# Altium footprint library PDQE20-Q24-S5-D.PcbLib: 2 footprints
Each footprint in its own frame and in the unit in brackets; x right, y up, seen from the top. Pads: shape width x height; smd on the part's side, far side on the other; paste and mask are expansions set on the pad; w line width, h text height; cw(c..) or ccw(c..) is an arc to the next point about the centre after c.
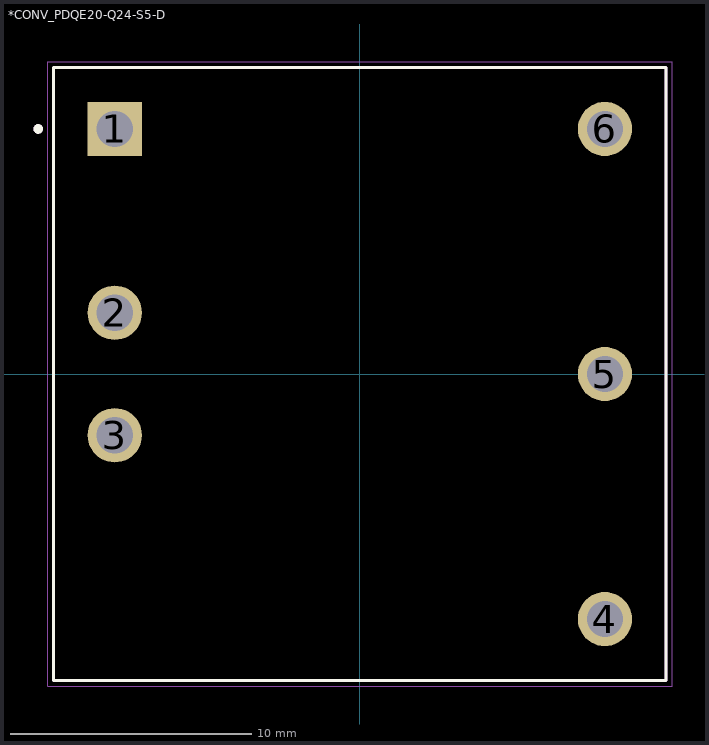
[diagram p0: the footprints below, top view; thin cyan lines are the x and y axes]

## *CONV_PDQE20-Q24-S5-D [mm]
pads (6):
  rect 2.25x2.25 hole 1.5: 1(-10.16,10.16)
  round 2.25 hole 1.5: 2(-10.16,2.54) 3(-10.16,-2.54) 4(10.16,-10.16) 5(10.16,0) 6(10.16,10.16)
Top Overlay:
  circle w0.2: c-13.335,10.16 r0.1
  lines w0.127: -12.7,-12.7 -12.7,12.7 12.7,12.7 12.7,-12.7 -12.7,-12.7
Mechanical 13:
  circle w0.2: c-13.335,10.16 r0.1
  circle w0.2: c-13.335,10.16 r0.1
  lines w0.127: -12.7,-12.7 -12.7,12.7 ; -12.7,-12.7 12.7,-12.7 ; -12.7,-12.7 -12.7,12.7 ; -12.7,-12.7 12.7,-12.7 ; -12.7,12.7 12.7,12.7 ; -12.7,12.7 12.7,12.7 ; 12.7,-12.7 12.7,12.7 ; 12.7,-12.7 12.7,12.7
Mechanical 15:
  lines w0.05: -12.95,-12.95 -12.95,12.95 12.95,12.95 12.95,-12.95 -12.95,-12.95

## PCBComponent_1 [mm]